# Altium schematic symbol library 电子元件.SchLib: 121 symbols (part 2 of 2)
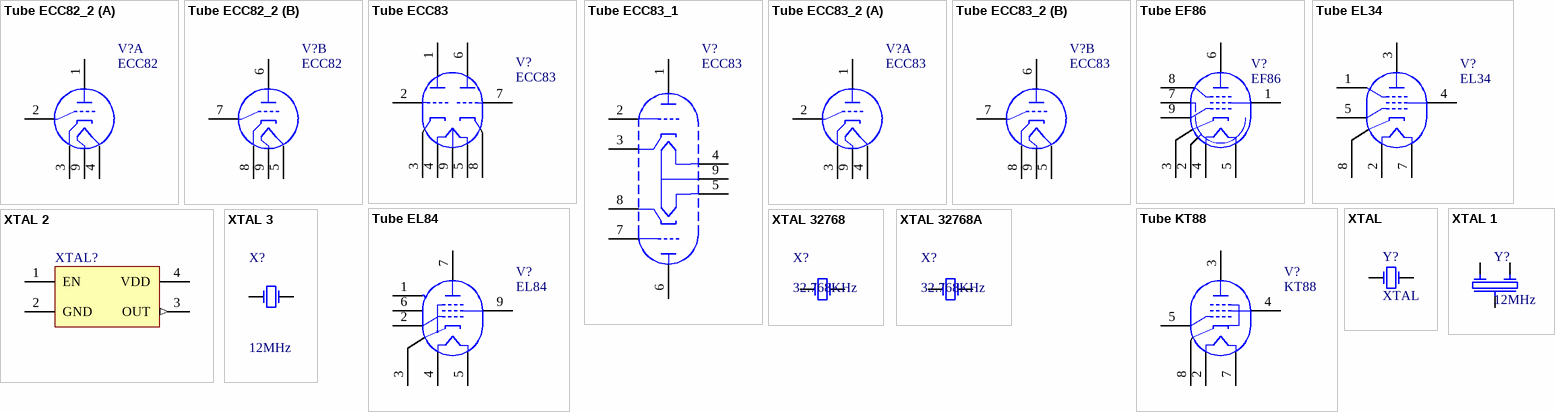
[diagram p4: symbols Tube ECC82_2 to XTAL 32768A]

## XTAL
designator Y?
2端型晶体振荡器; Published: 8-Jun-2000; LatestRevisionDate: 17-Jul-2002; LatestRevisionNote: Re-released for DXP Platform.; PackageReference: R38; Publisher: Altium Limited
simulation model XTAL (Spice Subcircuit)
footprint HC-49S-SMD (Footprint not found)
footprint HC-49U-2P (Footprint not found)
footprint HC-49T-2P (Footprint not found)
footprint HC-49S-2P (Footprint not found)
footprint CRYSTAL-3215 (32.768KHz晶振)
footprint NC15LF (32768Hz圆柱形晶振)
footprint NC26LF (32768Hz圆柱形晶振)
footprint NC38LF (32768Hz圆柱形晶振)
footprint FC-135 (32.768KHz晶振)
pins: 1 OSC1, 2 OSC2

## XTAL 1
designator Y?, comment 12MHz
3 端型振荡器; Published: 8-Jun-2000; LatestRevisionDate: 17-Jul-2002; LatestRevisionNote: Re-released for DXP Platform.; PackageReference: R38; Publisher: Altium Limited
footprint HC-49T-3P (Footprint not found)
footprint HC-49U-3P (Footprint not found)
footprint NC38LF (32768Hz圆柱形晶振)
footprint NC26LF (32768Hz圆柱形晶振)
footprint NC15LF (32768Hz圆柱形晶振)
pins: 1 OSC1, 2 OSC2, 3 GND

## XTAL 2
designator XTAL?
4 脚有源振荡器
footprint FQ7050B (Footprint not found)
footprint FXA5032B (Footprint not found)
footprint CRYSTAL-3225 (Quartz Crystal, SM; Body 3.4 x 2.7 mm 有源晶振(LxW max))
footprint CFPX-5 (Quartz Crystal, SM; Body 3.4 x 2.7 mm 有源晶振(LxW max))
pins: 1 EN, 2 GND, 3 OUT (out), 4 VDD

## XTAL 3
designator X?, comment 12MHz
4 脚无源振荡器
footprint FXA5032B (Footprint not found)
footprint FQ7050B (Footprint not found)
footprint CRYSTAL-3225 (Quartz Crystal, SM; Body 3.4 x 2.7 mm 有源晶振(LxW max))
footprint CFPX-5 (Quartz Crystal, SM; Body 3.4 x 2.7 mm 有源晶振(LxW max))
pins: 1 OSC1, 2 GROUND hidden, 3 OSC2 (power), 4 VDD hidden

## XTAL 32768
designator X?, comment 32.768KHz
32768HZ振荡器 【2PIN】
footprint FC-135 (Footprint not found)
footprint NC15LF (Footprint not found)
footprint NC26LF (Footprint not found)
footprint NC38LF (Footprint not found)
pins: 1, 2 (power)

## XTAL 32768A
designator X?, comment 32.768KHz
32768HZ振荡器【4PIN】
footprint CRYSTAL-8737 (Footprint not found)
footprint CRYSTAL-7326 (Footprint not found)
footprint CRYSTAL-8732 (Footprint not found)
footprint CRYSTAL-7015 (Footprint not found)
footprint MC-146 (Footprint not found)
pins: 1 OSC1, 4 SOC2 (power)